# EAGLE library part PIC18F1XK50 (library microchip_pic_18f1xK50)
pic pic18 pic18f pic18f13k50 pic18f14k50 pic18f1xk50
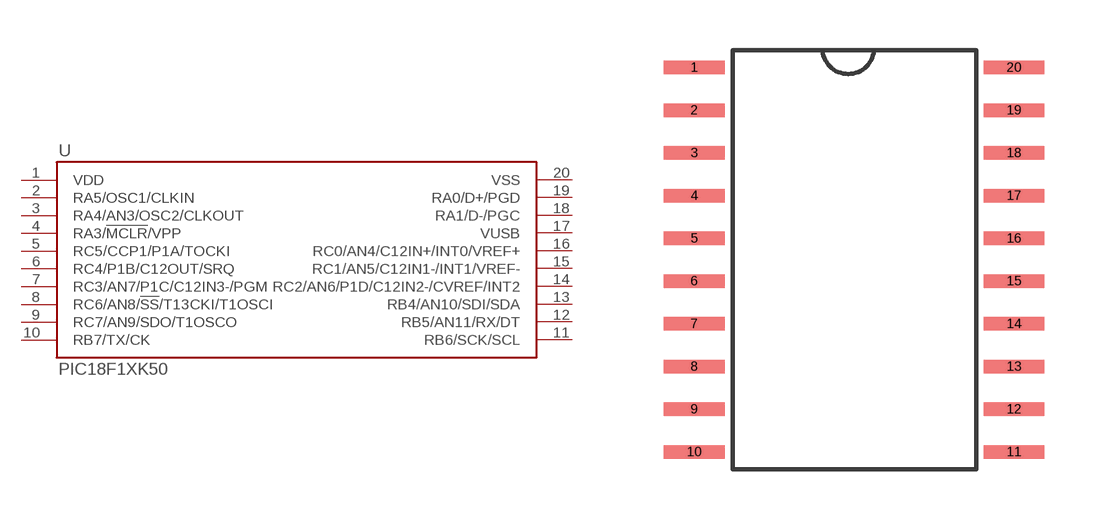
[diagram p0: symbol with the pads of SOIC20; footprint SOIC20]

Designator prefix -

## PIC18F1XK50  [SOIC20]
1  VDD
2  RA5/OSC1/CLKIN
3  RA4/AN3/OSC2/CLKOUT
4  RA3/!MCLR!/VPP
5  RC5/CCP1/P1A/TOCKI
6  RC4/P1B/C12OUT/SRQ
7  RC3/AN7/P1C/C12IN3-/PGM
8  RC6/AN8/!SS!/T13CKI/T1OSCI
9  RC7/AN9/SDO/T1OSCO
10  RB7/TX/CK
11  RB6/SCK/SCL
12  RB5/AN11/RX/DT
13  RB4/AN10/SDI/SDA
14  RC2/AN6/P1D/C12IN2-/CVREF/INT2
15  RC1/AN5/C12IN1-/INT1/VREF-
16  RC0/AN4/C12IN+/INT0/VREF+
17  VUSB
18  RA1/D-/PGC
19  RA0/D+/PGD
20  VSS

## Footprint SOIC20 (pad centres in mm)
SO20 SOIC SOIC20
smd 1.8 x 0.4: 1 0,0; 2 0,-1.27; 3 0,-2.54; 4 0,-3.81; 5 0,-5.08; 6 0,-6.35; 7 0,-7.62; 8 0,-8.89; 9 0,-10.16; 10 0,-11.43; 11 9.5,-11.43; 12 9.5,-10.16; 13 9.5,-8.89; 14 9.5,-7.62; 15 9.5,-6.35; 16 9.5,-5.08; 17 9.5,-3.81; 18 9.5,-2.54; 19 9.5,-1.27; 20 9.5,0